# EAGLE library part DIO5158 (library common)
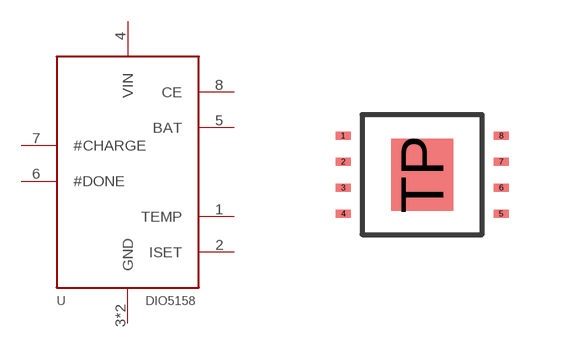
[diagram p41: symbol with the pads of EP-MSOP8; footprint EP-MSOP8]

Designator prefix U

## DIO5158XS8  [EP-MSOP8]
1  TEMP
2  ISET
3  GND
4  VIN
5  BAT
6  #DONE
7  #CHARGE
8  CE
TP  GND

## Footprint EP-MSOP8 (pad centres in mm)
smd 0.38 x 0.2: 1 -1.975,0.975; 2 -1.975,0.325; 3 -1.975,-0.325; 4 -1.975,-0.975; 5 1.975,-0.975; 6 1.975,-0.325; 7 1.975,0.325; 8 1.975,0.975
smd 1.55 x 1.8: TP 0,0